# EAGLE library part NUCLEO-F072RB (library ST_NUCLEO-F410RB)
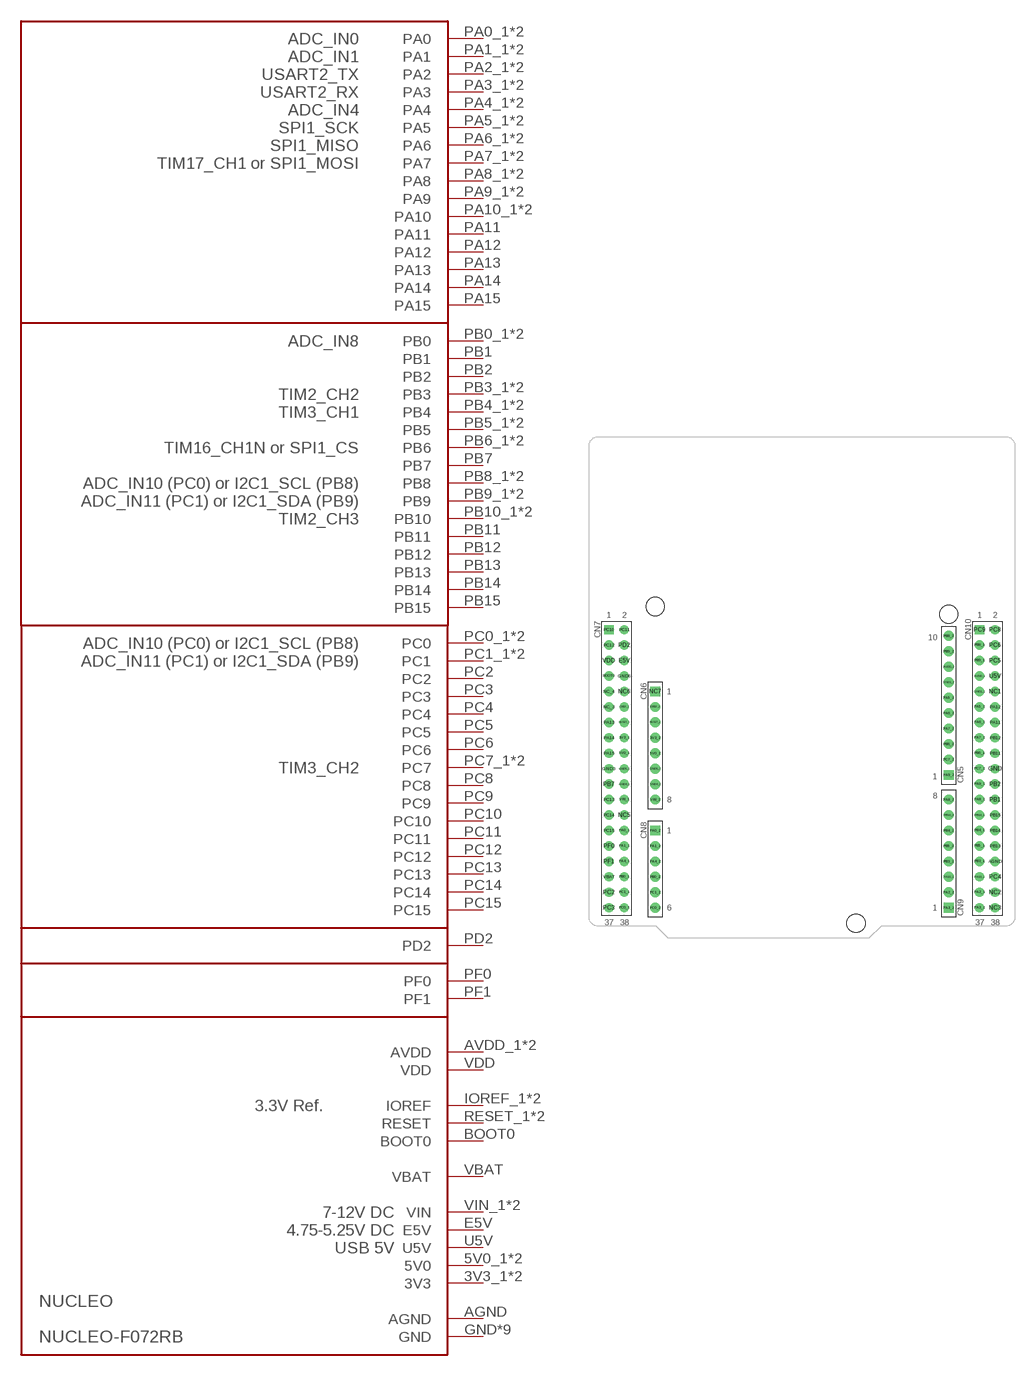
[diagram p0: symbol with the pads of NUCLEO; footprint NUCLEO]

Designator prefix NUCLEO

## NUCLEO-F072RB  [NUCLEO]
3V3_1  3V3
3V3_2  3V3
5V0_1  5V0
5V0_2  5V0
AGND  AGND
AVDD_1  AVDD
AVDD_2  AVDD
BOOT0  BOOT0
E5V  E5V
GND  GND
GND1_1  GND
GND1_2  GND
GND3  GND
GND4_1  GND
GND4_2  GND
GND5_1  GND
GND5_2  GND
GND6  GND
IOREF_1  IOREF
IOREF_2  IOREF
PA0_1  PA0
PA0_2  PA0
PA1_1  PA1
PA1_2  PA1
PA2_1  PA2
PA2_2  PA2
PA3_1  PA3
PA3_2  PA3
PA4_1  PA4
PA4_2  PA4
PA5_1  PA5
PA5_2  PA5
PA6_1  PA6
PA6_2  PA6
PA7_1  PA7
PA7_2  PA7
PA8_1  PA8
PA8_2  PA8
PA9_1  PA9
PA9_2  PA9
PA10_1  PA10
PA10_2  PA10
PA11  PA11
PA12  PA12
PA13  PA13
PA14  PA14
PA15  PA15
PB0_1  PB0
PB0_2  PB0
PB1  PB1
PB2  PB2
PB3_1  PB3
PB3_2  PB3
PB4_1  PB4
PB4_2  PB4
PB5_1  PB5
PB5_2  PB5
PB6_1  PB6
PB6_2  PB6
PB7  PB7
PB8_1  PB8
PB8_2  PB8
PB9_1  PB9
PB9_2  PB9
PB10_1  PB10
PB10_2  PB10
PB11  PB11
PB12  PB12
PB13  PB13
PB14  PB14
PB15  PB15
PC0_1  PC0
PC0_2  PC0
PC1_1  PC1
PC1_2  PC1
PC2  PC2
PC3  PC3
PC4  PC4
PC5  PC5
PC6  PC6
PC7_1  PC7
PC7_2  PC7
PC8  PC8
PC9  PC9
PC10  PC10
PC11  PC11
PC12  PC12
PC13  PC13
PC14  PC14
PC15  PC15
PD2  PD2
PF0  PF0
PF1  PF1
RESET_1  RESET
RESET_2  RESET
U5V  U5V
VBAT  VBAT
VDD  VDD
VIN_1  VIN
VIN_2  VIN

## Footprint NUCLEO (pad centres in mm)
drill 1.02: 3V3_1 -29.21,-8.905; 5V0_1 -29.21,-11.445; AGND 31.75,-29.225; AVDD_1 29.21,1.255; BOOT0 -31.75,1.255; E5V -29.21,3.795; GND 31.75,-13.985; GND1_1 29.21,-1.285; GND3 -31.75,-13.985; GND4_1 -29.21,-16.525; GND5_1 -29.21,-13.985; GND6 -29.21,1.255; IOREF_1 -29.21,-3.825; NC1 31.75,-1.285; NC2 31.75,-34.305; NC3 31.75,-36.845; NC5 -29.21,-21.605; NC6 -29.21,-1.285; NC_3 -31.75,-3.825; NC_4 -31.75,-1.285; PA0_1 -29.21,-24.145; PA1_1 -29.21,-26.685; PA2_1 29.21,-34.305; PA3_1 29.21,-36.845; PA4_1 -29.21,-29.225; PA5_1 29.21,-3.825; PA6_1 29.21,-6.365; PA7_1 29.21,-8.905; PA8_1 29.21,-19.065; PA9_1 29.21,-16.525; PA10_1 29.21,-31.765; PA11 31.75,-6.365; PA12 31.75,-3.825; PA13 -31.75,-6.365; PA14 -31.75,-8.905; PA15 -31.75,-11.445; PB0_1 -29.21,-31.765; PB1 31.75,-19.065; PB2 31.75,-16.525; PB3_1 29.21,-29.225; PB4_1 29.21,-24.145; PB5_1 29.21,-26.685; PB6_1 29.21,-11.445; PB7 -31.75,-16.525; PB8_1 29.21,6.335; PB9_1 29.21,3.795; PB10_1 29.21,-21.605; PB11 31.75,-11.445; PB12 31.75,-8.905; PB13 31.75,-26.685; PB14 31.75,-24.145; PB15 31.75,-21.605; PC0_1 -29.21,-36.845; PC1_1 -29.21,-34.305; PC2 -31.75,-34.305; PC3 -31.75,-36.845; PC4 31.75,-31.765; PC5 31.75,3.795; PC6 31.75,6.335; PC7_1 29.21,-13.985; PC8 31.75,8.875; PC11 -29.21,8.875; PC12 -31.75,6.335; PC13 -31.75,-19.065; PC14 -31.75,-21.605; PC15 -31.75,-24.145; PD2 -29.21,6.335; PF0 -31.75,-26.685; PF1 -31.75,-29.225; RESET_1 -29.21,-6.365; U5V 31.75,1.255; VBAT -31.75,-31.765; VDD -31.75,3.795; VIN_1 -29.21,-19.065
drill 1.07: 3V3_2 -24.13,-8.905; 5V0_2 -24.13,-11.445; AVDD_2 24.13,2.775; GND1_2 24.13,0.235; GND4_2 -24.13,-16.525; GND5_2 -24.13,-13.985; IOREF_2 -24.13,-3.825; PA1_2 -24.13,-26.685; PA2_2 24.13,-34.305; PA4_2 -24.13,-29.225; PA5_2 24.13,-2.305; PA6_2 24.13,-4.845; PA7_2 24.13,-7.385; PA8_2 24.13,-19.065; PA10_2 24.13,-31.765; PB0_2 -24.13,-31.765; PB3_2 24.13,-29.225; PB4_2 24.13,-24.145; PB5_2 24.13,-26.685; PB6_2 24.13,-9.925; PB8_2 24.13,7.855; PB9_2 24.13,5.315; PB10_2 24.13,-21.605; PC0_2 -24.13,-36.845; PC1_2 -24.13,-34.305; PC7_2 24.13,-12.465; RESET_2 -24.13,-6.365; VIN_2 -24.13,-19.065
drill 1.07 square: NC7 -24.13,-1.285; PA0_2 -24.13,-24.145; PA3_2 24.13,-36.845; PA9_2 24.13,-15.005
drill 1.02 square: PC9 29.21,8.875; PC10 -31.75,8.875
hole 3 at 8.89,-39.385
hole 3 at 24.13,11.415
hole 3 at -24.13,12.685